# Altium schematic symbol library IC.SCHLIB: 146 symbols (part 2 of 2)
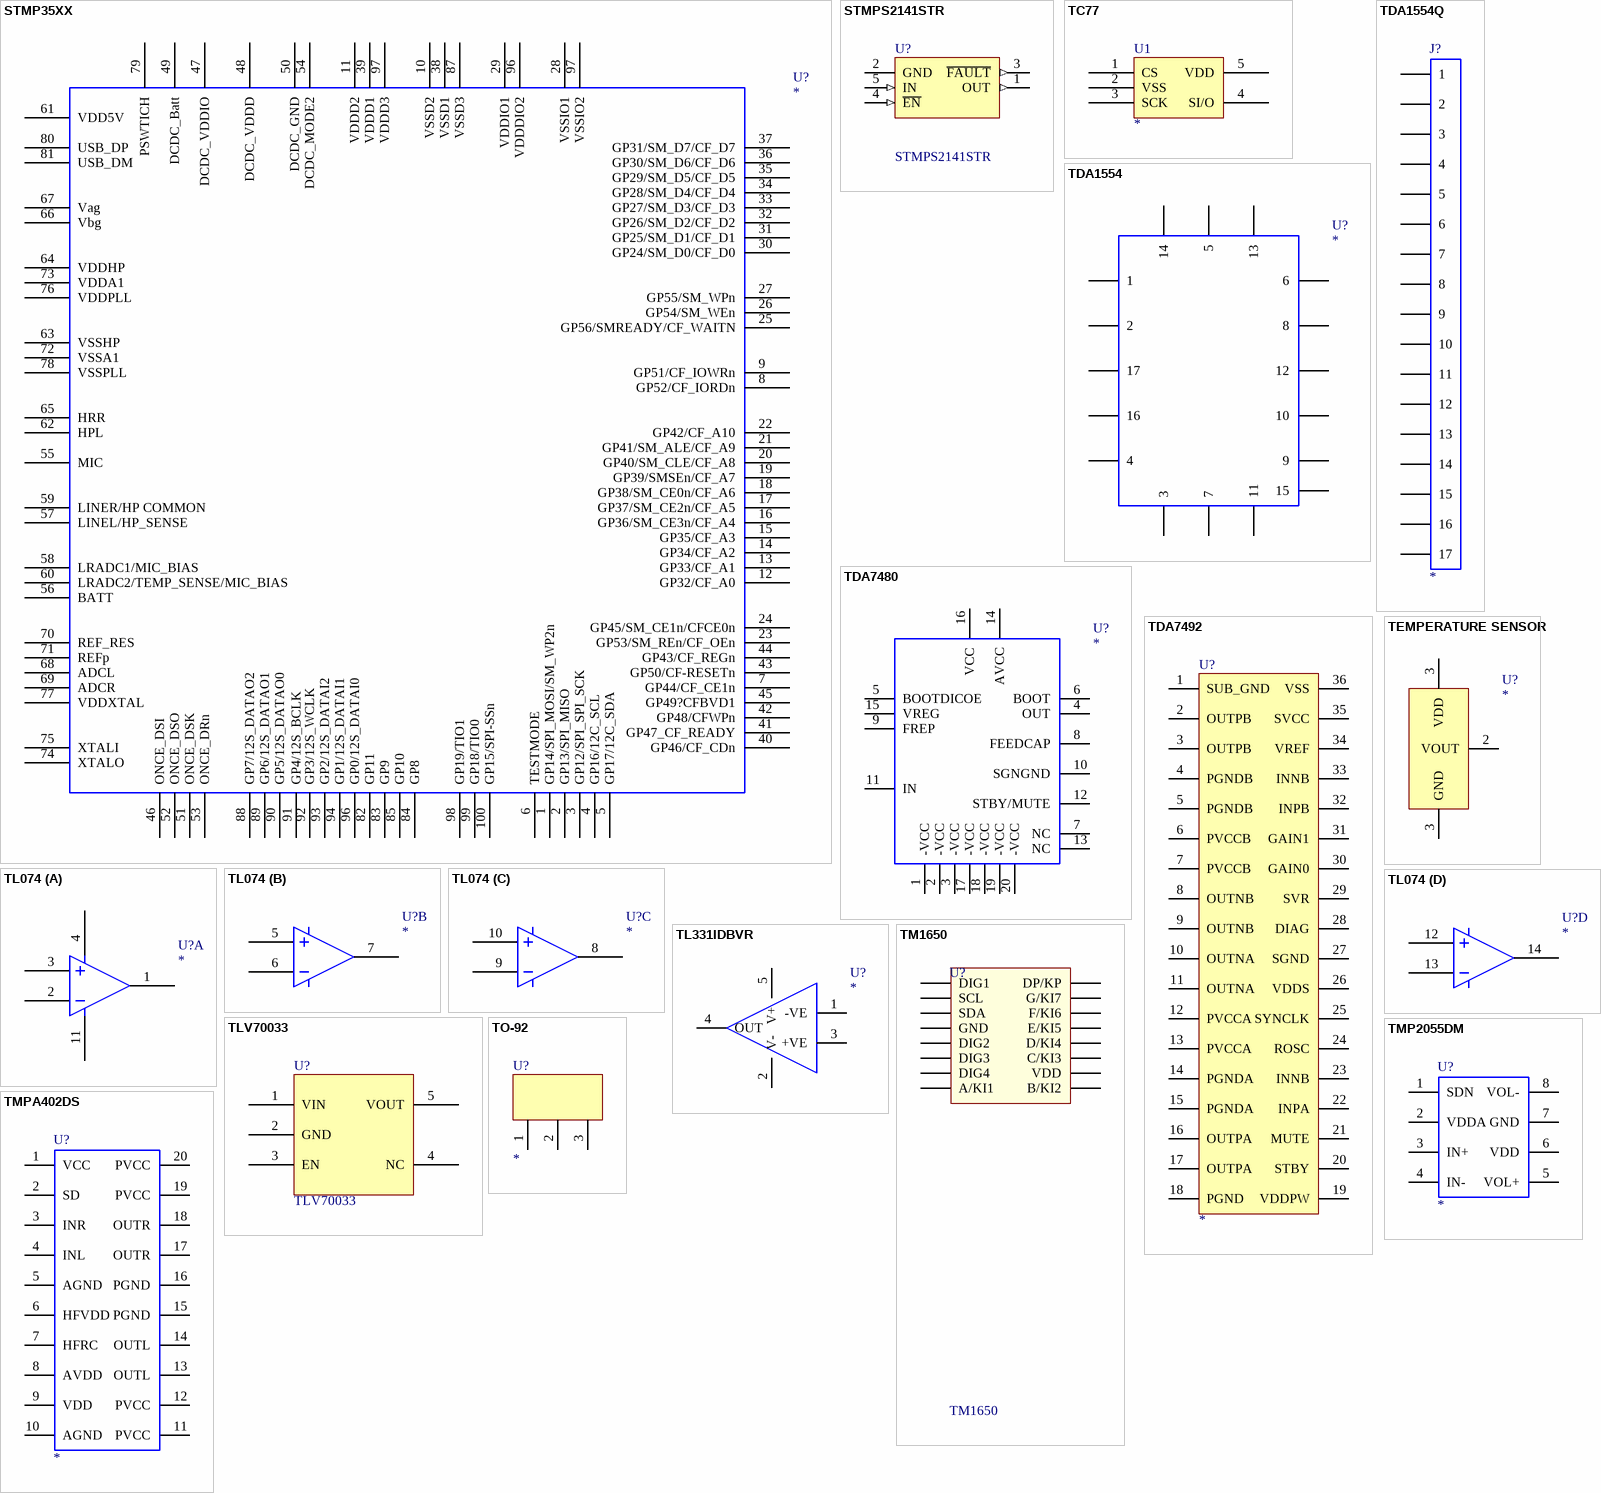
[diagram p18: symbols STMP35XX to TO-92]

## TDA7480
designator U?
footprint DIC20
pins: 1 -VCC, 2 -VCC, 3 -VCC, 4 OUT, 5 BOOTDICOE, 6 BOOT, 7 NC, 8 FEEDCAP, 9 FREP, 10 SGNGND, 11 IN, 12 STBY/MUTE, 13 NC, 14 AVCC, 15 VREG, 16 VCC, 17 -VCC, 18 -VCC, 19 -VCC, 20 -VCC

## TDA7492
designator U?
footprint IC36
pins: 1 SUB_GND, 2 OUTPB, 3 OUTPB, 4 PGNDB, 5 PGNDB, 6 PVCCB, 7 PVCCB, 8 OUTNB, 9 OUTNB, 10 OUTNA, 11 OUTNA, 12 PVCCA, 13 PVCCA, 14 PGNDA, 15 PGNDA, 16 OUTPA, 17 OUTPA, 18 PGND, 19 VDDPW, 20 STBY, 21 MUTE, 22 INPA, 23 INNB, 24 ROSC, 25 SYNCLK, 26 VDDS, 27 SGND, 28 DIAG, 29 SVR, 30 GAIN0, 31 GAIN1, 32 INPB, 33 INNB, 34 VREF, 35 SVCC, 36 VSS

## TEMPERATURE SENSOR
designator U?
Text Field1: 20; Text Field2: 10
footprint T-SENSOR
pins: 2 VOUT, 3 GND, 3 VDD

## TL074
designator U?
footprint DIP-14
part A pins: 1, 2, 3, 4, 11
part B pins: 5, 6, 7
part C pins: 8, 9, 10
part D pins: 12, 13, 14

## TL331IDBVR
designator U?
pins: 1 -VE, 2 V-, 3 +VE, 4 OUT, 5 V+

## TLV70033
designator U?
footprint SOT-23-6 (Footprint not found)
pins: 1 VIN, 2 GND, 3 EN, 4 NC, 5 VOUT
2 alternate drawings of the same symbol

## TM1650
designator U?
footprint IC28
pins: 1 DIG1, 2 SCL, 3 SDA, 4 GND, 5 DIG2, 6 DIG3, 7 DIG4, 8 A/KI1, 9 B/KI2, 10 VDD, 11 C/KI3, 12 D/KI4, 13 E/KI5, 14 F/KI6, 15 G/KI7, 16 DP/KP

## TMP2055DM
designator U?
footprint SOP8
pins: 1 SDN, 2 VDDA, 3 IN+, 4 IN-, 5 VOL+, 6 VDD, 7 GND, 8 VOL-

## TMPA402DS
designator U?
footprint SEN20
footprint DIP18A
footprint IC20
footprint TSSOP20
pins: 1 VCC, 2 SD, 3 INR, 4 INL, 5 AGND, 6 HFVDD, 7 HFRC, 8 AVDD, 9 VDD, 10 AGND, 11 PVCC, 12 PVCC, 13 OUTL, 14 OUTL, 15 PGND, 16 PGND, 17 OUTR, 18 OUTR, 19 PVCC, 20 PVCC

## TO-92
designator U?
Text Field1: 20; Text Field2: 10
footprint TO-92
footprint TO-92-1
footprint TO-92-2
pins: 1, 2, 3

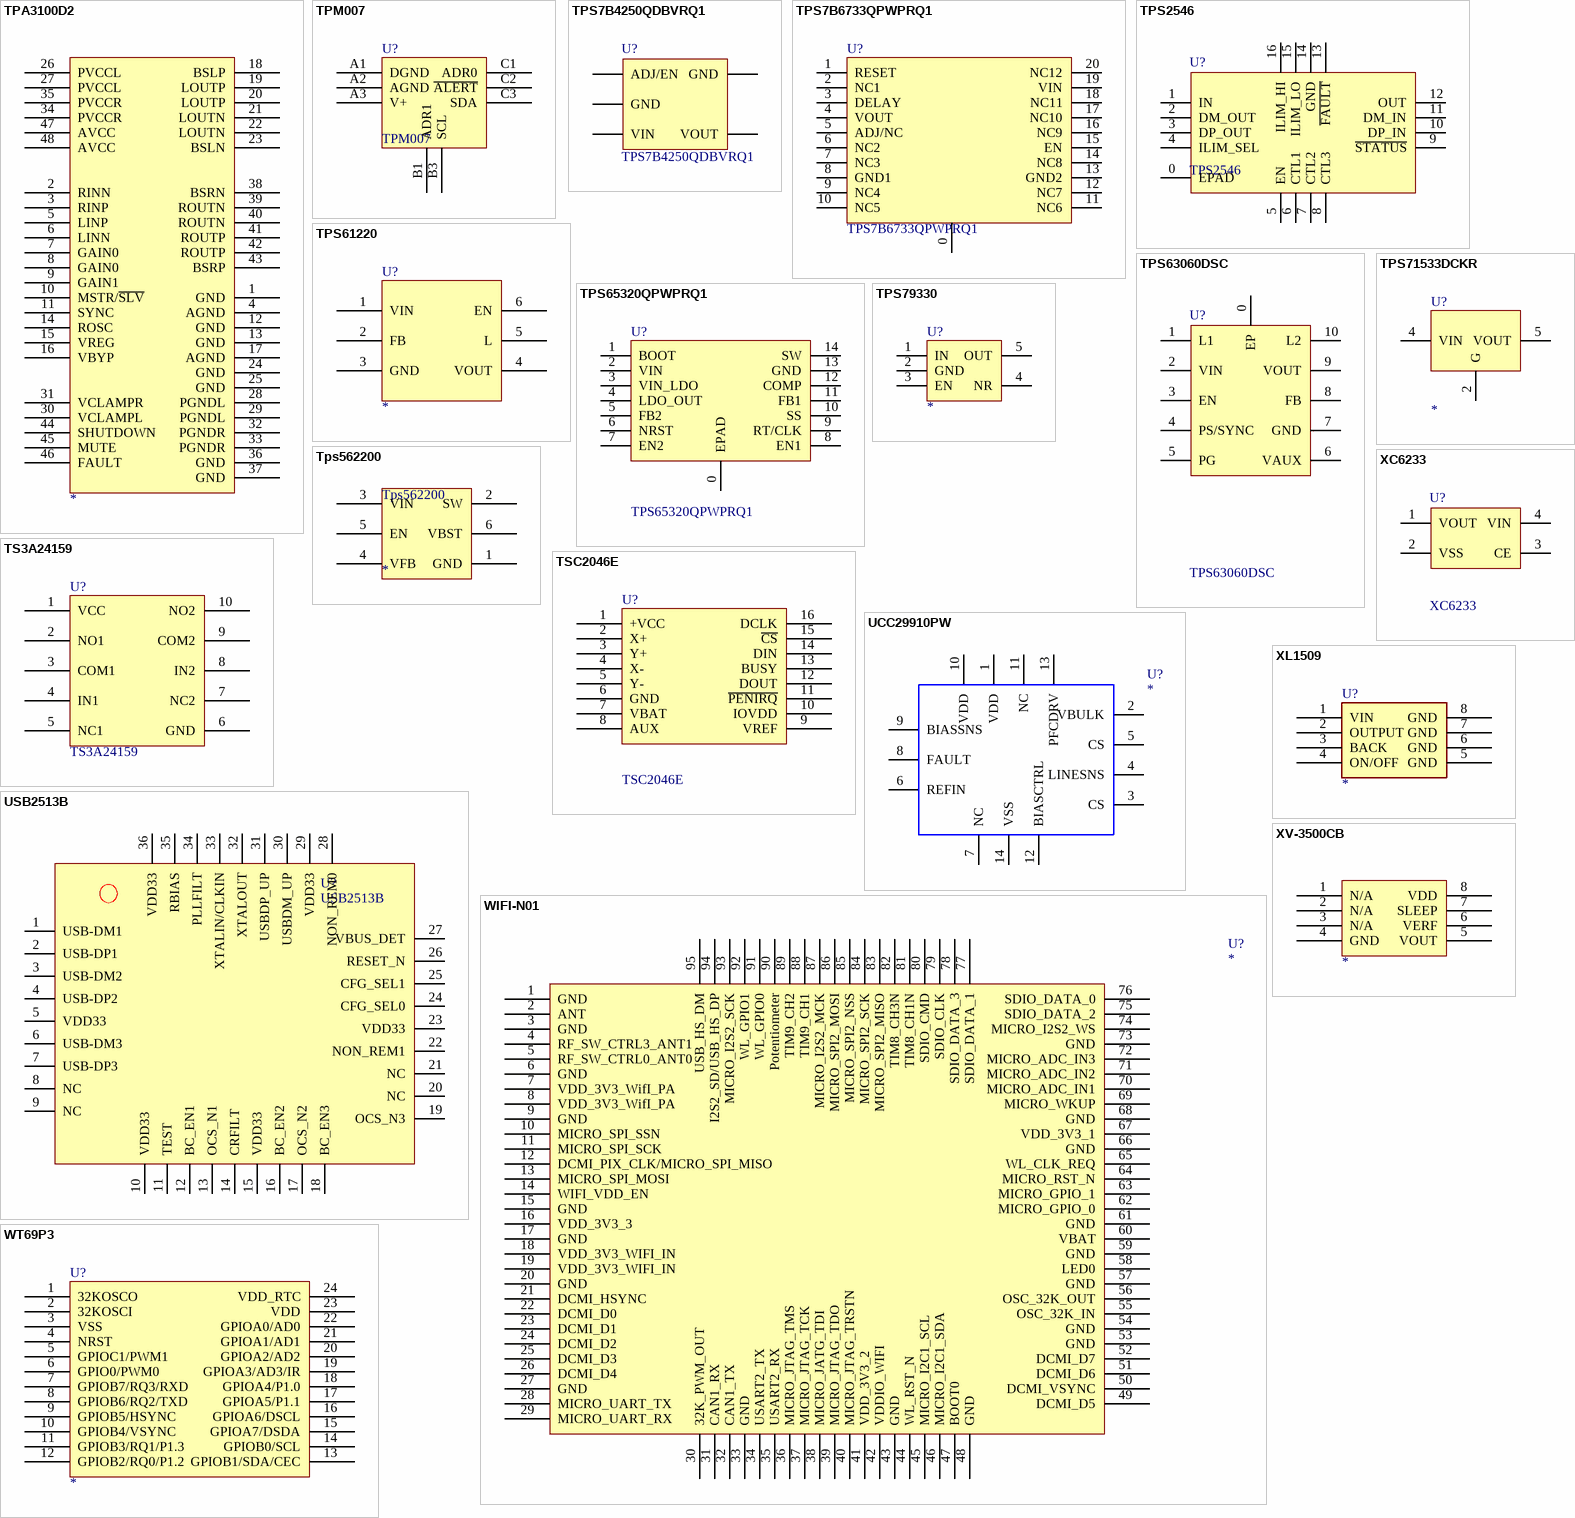
[diagram p17: symbols TPA3100D2 to XV-3500CB]

## TPA3100D2
designator ?
pins: 1 GND, 2 RINN, 3 RINP, 4 AGND, 5 LINP, 6 LINN, 7 GAIN0, 8 GAIN0, 9 GAIN1, 10 MSTR/~{SLV}, 11 SYNC, 12 GND, 13 GND, 14 ROSC, 15 VREG, 16 VBYP, 17 AGND, 18 BSLP, 19 LOUTP, 20 LOUTP, 21 LOUTN, 22 LOUTN, 23 BSLN, 24 GND, 25 GND, 26 PVCCL, 27 PVCCL, 28 PGNDL, 29 PGNDL, 30 VCLAMPL, 31 VCLAMPR, 32 PGNDR, 33 PGNDR, 34 PVCCR, 35 PVCCR, 36 GND, 37 GND, 38 BSRN, 39 ROUTN, 40 ROUTN, 41 ROUTP, 42 ROUTP, 43 BSRP, 44 SHUTDOWN, 45 MUTE, 46 FAULT, 47 AVCC, 48 AVCC

## TPM007
designator U?
footprint BGA8-TMP007
pins: A1 DGND, A2 AGND, A3 V+, B1 ADR1, B3 SCL, C1 ADR0, C2 ~{ALERT}, C3 SDA
2 alternate drawings of the same symbol

## TPS7B4250QDBVRQ1
designator U?
footprint SOT-23-5-0.95MM
pins: 1 ADJ/EN, 2 GND, 3 VIN, 4 VOUT, 5 GND

## TPS7B6733QPWPRQ1
designator U?
footprint TSSOP20
pins: 0, 1 RESET, 2 NC1, 3 DELAY, 4 VOUT, 5 ADJ/NC, 6 NC2, 7 NC3, 8 GND1, 9 NC4, 10 NC5, 11 NC6, 12 NC7, 13 GND2, 14 NC8, 15 EN, 16 NC9, 17 NC10, 18 NC11, 19 VIN, 20 NC12

## TPS2546
designator U?
pins: 0 EPAD, 1 IN, 2 DM_OUT, 3 DP_OUT, 4 ILIM_SEL, 5 EN, 6 CTL1, 7 CTL2, 8 CTL3, 9 ~{STATUS}, 10 DP_IN, 11 DM_IN, 12 OUT, 13 ~{FAULT}, 14 GND, 15 ILIM_LO, 16 ILIM_HI

## TPS61220
designator U?
footprint SOT-23-6
pins: 1 VIN, 2 FB, 3 GND, 4 VOUT, 5 L, 6 EN
2 alternate drawings of the same symbol

## TPS63060DSC
designator U?
footprint IC16
footprint SEN16
footprint SEN16A
pins: 0 EP, 1 L1, 2 VIN, 3 EN, 4 PS/SYNC, 5 PG, 6 VAUX, 7 GND, 8 FB, 9 VOUT, 10 L2

## TPS65320QPWPRQ1
designator U?
footprint TSSOP20
pins: 0 EPAD, 1 BOOT, 2 VIN, 3 VIN_LDO, 4 LDO_OUT, 5 FB2, 6 NRST, 7 EN2, 8 EN1, 9 RT/CLK, 10 SS, 11 FB1, 12 COMP, 13 GND, 14 SW

## TPS71533DCKR
designator U?
Text Field1: 20; Text Field2: 10
footprint SOT323-5
pins: 2 G, 4 VIN, 5 VOUT

## TPS79330
designator U?
footprint SOT-23-5
pins: 1 IN, 2 GND, 3 EN, 4 NR, 5 OUT

## Tps562200
designator Tps562200
footprint SOT-23-5
pins: 1 GND, 2 SW, 3 VIN, 4 VFB, 5 EN, 6 VBST

## TS3A24159
designator U?
footprint 25LC256
pins: 1 VCC, 2 NO1, 3 COM1, 4 IN1, 5 NC1, 6 GND, 7 NC2, 8 IN2, 9 COM2, 10 NO2

## TSC2046E
designator U?
footprint TSSOP20
pins: 1 +VCC, 2 X+, 3 Y+, 4 X-, 5 Y-, 6 GND, 7 VBAT, 8 AUX, 9 VREF, 10 IOVDD, 11 ~{PENIRQ}, 12 DOUT, 13 BUSY, 14 DIN, 15 ~{CS}, 16 DCLK

## UCC29910PW
designator U?
footprint IC14
pins: 1 VDD, 2 VBULK, 3 CS, 4 LINESNS, 5 CS, 6 REFIN, 7 NC, 8 FAULT, 9 BIASSNS, 10 VDD, 11 NC, 12 BIASCTRL, 13 PFCDRV, 14 VSS

## USB2513B
designator U?
IC
pins: 1 USB-DM1 "GND", 2 USB-DP1 "SCL", 3 USB-DM2 "SDA", 4 USB-DP2 "NC", 5 VDD33 "P1_5", 6 USB-DM3 "P1_4", 7 USB-DP3 "P1_3", 8 NC "P1_2", 9 NC "P1_1", 10 VDD33 "DVDD2", 11 TEST, 12 BC_EN1 "P0_7", 13 OCS_N1 "P0_6", 14 CRFILT "P0_5", 15 VDD33 "P0_4", 16 BC_EN2 "P0_3", 17 OCS_N2 "P0_2", 18 BC_EN3 "P0_1", 19 OCS_N3 "AVDD5", 20 NC "XOSC_Q1", 21 NC "AVDD5", 22 NON_REM1 "XOSC_Q1", 23 VDD33 "XOSC_Q2", 24 CFG_SEL0 "AVDD3", 25 CFG_SEL1 "RF_P", 26 RESET_N "RF_N", 27 VBUS_DET "AVDD2", 28 NON_REM0 "AVDD1", 29 VDD33 "AVDD4", 30 USBDM_UP "R_BIAS", 31 USBDP_UP "AVDD6", 32 XTALOUT "P2_4 / OSC32K_Q1", 33 XTALIN/CLKIN "P2_3 / OSC32K_Q2", 34 PLLFILT "P2_2", 35 RBIAS "P2_1", 36 VDD33 "P2_0"

## WIFI-N01
designator U?
footprint IC128
pins: 1 GND, 2 ANT, 3 GND, 4 RF_SW_CTRL3_ANT1, 5 RF_SW_CTRL0_ANT0, 6 GND, 7 VDD_3V3_WifI_PA, 8 VDD_3V3_WifI_PA, 9 GND, 10 MICRO_SPI_SSN, 11 MICRO_SPI_SCK, 12 DCMI_PIX_CLK/MICRO_SPI_MISO, 13 MICRO_SPI_MOSI, 14 WIFI_VDD_EN, 15 GND, 16 VDD_3V3_3, 17 GND, 18 VDD_3V3_WIFI_IN, 19 VDD_3V3_WIFI_IN, 20 GND, 21 DCMI_HSYNC, 22 DCMI_D0, 23 DCMI_D1, 24 DCMI_D2, 25 DCMI_D3, 26 DCMI_D4, 27 GND, 28 MICRO_UART_TX, 29 MICRO_UART_RX, 30 32K_PWM_OUT, 31 CAN1_RX, 32 CAN1_TX, 33 GND, 34 USART2_TX, 35 USART2_RX, 36 MICRO_JTAG_TMS, 37 MICRO_JTAG_TCK, 38 MICRO_JATG_TDI, 39 MICRO_JTAG_TDO, 40 MICRO_JTAG_TRSTN, 41 VDD_3V3_2, 42 VDDIO_WIFI, 43 GND, 44 WL_RST_N, 45 MICRO_I2C1_SCL, 46 MICRO_I2C1_SDA, 47 BOOT0, 48 GND, 49 DCMI_D5, 50 DCMI_VSYNC, 51 DCMI_D6, 52 DCMI_D7, 53 GND, 54 GND, 55 OSC_32K_IN, 56 OSC_32K_OUT, 57 GND, 58 LED0, 59 GND, 60 VBAT, 61 GND, 62 MICRO_GPIO_0, 63 MICRO_GPIO_1, 64 MICRO_RST_N, 65 WL_CLK_REQ, 66 GND, 67 VDD_3V3_1, 68 GND, 69 MICRO_WKUP, 70 MICRO_ADC_IN1, 71 MICRO_ADC_IN2, 72 MICRO_ADC_IN3, 73 GND, 74 MICRO_I2S2_WS, 75 SDIO_DATA_2, 76 SDIO_DATA_0, 77 SDIO_DATA_1, 78 SDIO_DATA_3, 79 SDIO_CLK, 80 SDIO_CMD, 81 TIM8_CH1N, 82 TIM8_CH3N, 83 MICRO_SPI2_MISO, 84 MICRO_SPI2_SCK, 85 MICRO_SPI2_NSS, 86 MICRO_SPI2_MOSI, 87 MICRO_I2S2_MCK, 88 TIM9_CH1, 89 TIM9_CH2, 90 Potentiometer, 91 WL_GPIO0, 92 WL_GPIO1, 93 MICRO_I2S2_SCK, 94 I2S2_SD/USB_HS_DP, 95 USB_HS_DM

## WT69P3
designator U?
footprint TSSOP24
pins: 1 32KOSCO, 2 32KOSCI, 3 VSS, 4 NRST, 5 GPIOC1/PWM1, 6 GPIO0/PWM0, 7 GPIOB7/RQ3/RXD, 8 GPIOB6/RQ2/TXD, 9 GPIOB5/HSYNC, 10 GPIOB4/VSYNC, 11 GPIOB3/RQ1/P1.3, 12 GPIOB2/RQ0/P1.2, 13 GPIOB1/SDA/CEC, 14 GPIOB0/SCL, 15 GPIOA7/DSDA, 16 GPIOA6/DSCL, 17 GPIOA5/P1.1, 18 GPIOA4/P1.0, 19 GPIOA3/AD3/IR, 20 GPIOA2/AD2, 21 GPIOA1/AD1, 22 GPIOA0/AD0, 23 VDD, 24 VDD_RTC

## XC6233
designator U?
footprint IC5
pins: 1 VOUT, 2 VSS, 3 CE, 4 VIN

## XL1509
designator U?
footprint SOP8
pins: 1 VIN, 2 OUTPUT, 3 BACK, 4 ON/OFF, 5 GND, 6 GND, 7 GND, 8 GND
2 alternate drawings of the same symbol

## XV-3500CB
designator ?
pins: 1 N/A, 2 N/A, 3 N/A, 4 GND, 5 VOUT, 6 VERF, 7 SLEEP, 8 VDD